# EAGLE library part 5408-37 (library custom-2002)
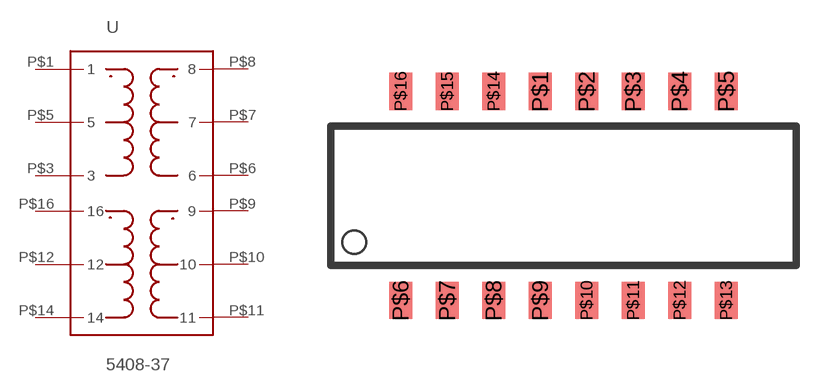
[diagram p19: symbol with the pads of PDFP_G16; footprint PDFP_G16]

Designator prefix -

## 5408-37  [PDFP_G16]
P$1  1
P$3  3
P$5  5
P$6  6
P$7  7
P$8  8
P$9  9
P$10  10
P$11  11
P$12  12
P$14  14
P$16  16

## Footprint PDFP_G16 (pad centres in mm)
smd 1.27 x 2.03: P$1 7.62,11.43; P$2 10.16,11.43; P$3 12.7,11.43; P$4 15.24,11.43; P$5 17.78,11.43; P$6 0,0; P$7 2.54,0; P$8 5.08,0; P$9 7.62,0; P$10 10.16,0; P$11 12.7,0; P$12 15.24,0; P$13 17.78,0; P$14 5.08,11.43; P$15 2.54,11.43; P$16 0,11.43